# Altium footprint library PCB - CAPACITOR - ALUMINIUM - CAP ALSMD POLY 8.3MM H6.7MM.PCBLIB: 1 footprints
Each footprint in its own frame and in the unit in brackets; x right, y up, seen from the top. Pads: shape width x height; smd on the part's side, far side on the other; paste and mask are expansions set on the pad; w line width, h text height; cw(c..) or ccw(c..) is an arc to the next point about the centre after c.
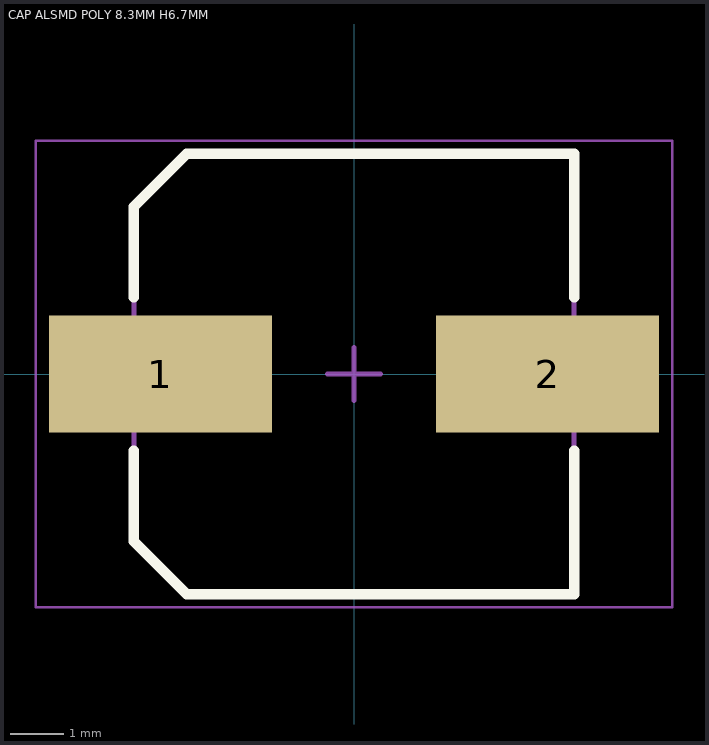
[diagram p0: the footprint, top view; thin cyan lines are the x and y axes]

## CAP ALSMD POLY 8.3MM H6.7MM [mm] "Aluminum Electrolytic Capacitor, Body 8.30x8.30x6.7mm"
height 6.7
pads (2):
  rect 4.2x2.2 smd: 1(-3.65,0) 2(3.65,0)
Top Overlay:
  lines w0.2: -4.15,-1.45 -4.15,-3.151 -3.151,-4.15 4.15,-4.15 4.15,-1.45 ; -4.15,1.45 -4.15,3.151 -3.151,4.15 4.15,4.15 4.15,1.45
Mechanical 13:
  lines w0.1: -4.15,-3.15 -3.15,-4.15 4.15,-4.15 4.15,4.15 -3.15,4.15 -4.15,3.15 -4.15,-3.15
Mechanical 15:
  lines w0.05: -6,-4.4 -6,4.4 6,4.4 6,-4.4 -6,-4.4
  lines w0.1: -0.5,0 0.5,0 ; 0,-0.5 0,0.5
3D body "CAP ALSMD - POLY - 8.3 x 8.3 x 6.7.step": height 6.7, standoff 0, extent -4.5,-4.15 4.5,4.15